# Altium footprint library SparkFun-Buzzard.PCBLIB: 53 footprints (part 3 of 4)
Each footprint in its own frame and in the unit in brackets; x right, y up, seen from the top. Pads: shape width x height; smd on the part's side, far side on the other; paste and mask are expansions set on the pad; w line width, h text height; cw(c..) or ccw(c..) is an arc to the next point about the centre after c.
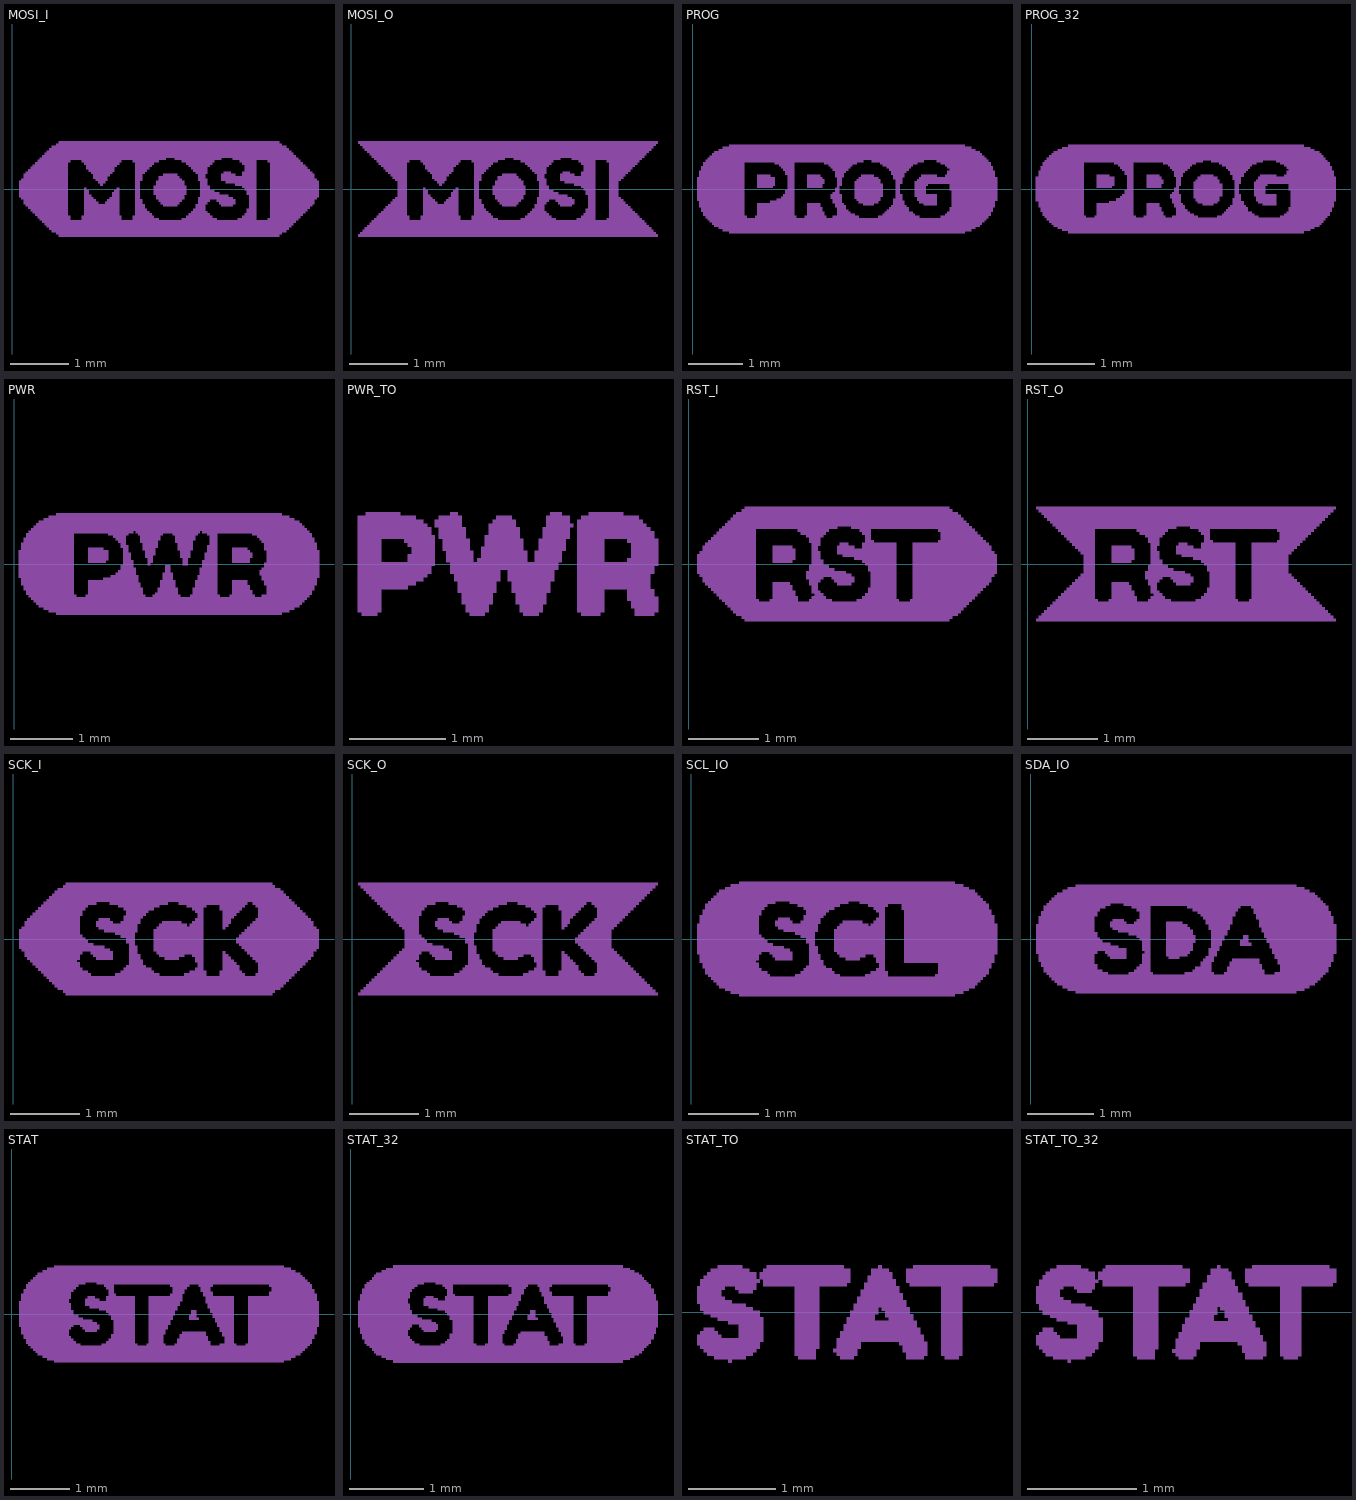
[diagram p2: the footprints below, top view; thin cyan lines are the x and y axes]

## MOSI_I [mm]
tPlace:
  drawing of 198 lines, arcs and shapes, not listed

## MOSI_O [mm]
tPlace:
  drawing of 198 lines, arcs and shapes, not listed

## PROG [mm]
tPlace:
  drawing of 191 lines, arcs and shapes, not listed

## PROG_32 [mm]
tPlace:
  drawing of 191 lines, arcs and shapes, not listed

## PWR [mm]
tPlace:
  drawing of 179 lines, arcs and shapes, not listed

## PWR_TO [mm]
tPlace:
  drawing of 137 lines, arcs and shapes, not listed

## RST_I [mm]
tPlace:
  drawing of 138 lines, arcs and shapes, not listed

## RST_O [mm]
tPlace:
  drawing of 138 lines, arcs and shapes, not listed

## SCK_I [mm]
tPlace:
  drawing of 149 lines, arcs and shapes, not listed

## SCK_O [mm]
tPlace:
  drawing of 149 lines, arcs and shapes, not listed

## SCL_IO [mm]
tPlace:
  drawing of 130 lines, arcs and shapes, not listed

## SDA_IO [mm]
tPlace:
  drawing of 149 lines, arcs and shapes, not listed

## STAT [mm]
tPlace:
  drawing of 161 lines, arcs and shapes, not listed

## STAT_32 [mm]
tPlace:
  drawing of 161 lines, arcs and shapes, not listed

## STAT_TO [mm]
tPlace:
  drawing of 123 lines, arcs and shapes, not listed

## STAT_TO_32 [mm]
tPlace:
  drawing of 123 lines, arcs and shapes, not listed